# EAGLE library part MKL02Z32 (library 445-eagle-lib)
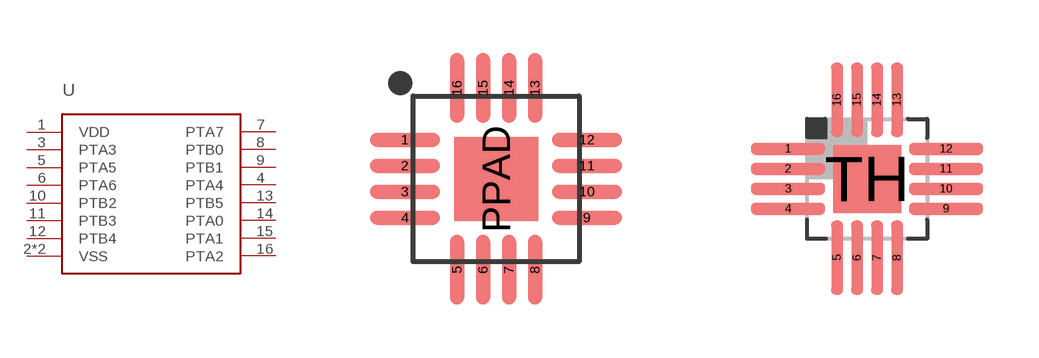
[diagram p3: symbol with the pads of WQFN-16; footprints WQFN-16, QFN16]

Designator prefix -

## MKL02Z32  [WQFN-16]
1  VDD
2  VSS
3  PTA3
4  PTA4
5  PTA5
6  PTA6
7  PTA7
8  PTB0
9  PTB1
10  PTB2
11  PTB3
12  PTB4
13  PTB5
14  PTA0
15  PTA1
16  PTA2
PPAD  VSS

## MKL02Z32CORRECT  [QFN16]
1  VDD
2  VSS
3  PTA3
4  PTA4
5  PTA5
6  PTA6
7  PTA7
8  PTB0
9  PTB1
10  PTB2
11  PTB3
12  PTB4
13  PTB5
14  PTA0
15  PTA1
16  PTA2
TH  VSS

## Footprint WQFN-16 (pad centres in mm)
smd 1.75 x 0.35: 1 -2.275,0.975; 2 -2.275,0.325; 3 -2.275,-0.325; 4 -2.275,-0.975; 9 2.275,-0.975; 10 2.275,-0.325; 11 2.275,0.325; 12 2.275,0.975
smd 0.35 x 1.75: 5 -0.975,-2.275; 6 -0.325,-2.275; 7 0.325,-2.275; 8 0.975,-2.275; 13 0.975,2.275; 14 0.325,2.275; 15 -0.325,2.275; 16 -0.975,2.275
smd 2.1 x 2.1: PPAD 0,0

## Footprint QFN16 (pad centres in mm)
RTE (S-PQFP-N16) 3x3 mm Source: www.ti.com .. tpa6132a2 direct path stereo $.65.pdf
smd 1.85 x 0.3: 1 -1.975,0.75; 2 -1.975,0.25; 3 -1.975,-0.25; 4 -1.975,-0.75; 9 1.975,-0.75; 10 1.975,-0.25; 11 1.975,0.25; 12 1.975,0.75
smd 0.3 x 1.85: 5 -0.75,-1.975; 6 -0.25,-1.975; 7 0.25,-1.975; 8 0.75,-1.975; 13 0.75,1.975; 14 0.25,1.975; 15 -0.25,1.975; 16 -0.75,1.975
smd 1.7 x 1.7: TH 0,0